# Altium footprint library TSW-102-XX-X-S--Symbol-Altium-44987.PcbLib: 1 footprints
Each footprint in its own frame and in the unit in brackets; x right, y up, seen from the top. Pads: shape width x height; smd on the part's side, far side on the other; paste and mask are expansions set on the pad; w line width, h text height; cw(c..) or ccw(c..) is an arc to the next point about the centre after c.
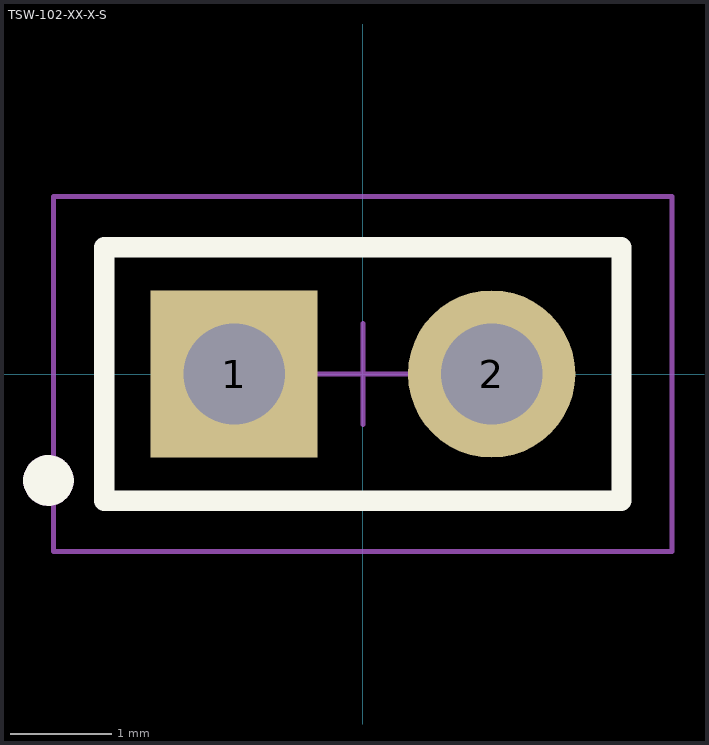
[diagram p0: the footprint, top view; thin cyan lines are the x and y axes]

## TSW-102-XX-X-S [mm] "2.54mm pitch, 2 pin, terminal strip"
height 2.54
pads (2):
  rect 1.65x1.65 hole 1 mask+0: 1(-1.27,0)
  round 1.65 hole 1 mask+0: 2(1.27,0)
Top Overlay:
  circle w0.25: c-3.1,-1.05 r0.125
  lines w0.2: -2.55,-1.25 -2.55,1.25 2.55,1.25 2.55,-1.25 -2.55,-1.25
Mechanical 12:
  lines w0.001: -2.55,-1.25 -2.55,1.25 2.55,1.25 2.55,-1.25 -2.55,-1.25
Mechanical 13:
  circle w0.25: c-3.1,-1.05 r0.125
  lines w0.1: -2.55,-1.25 -2.55,1.25 2.55,1.25 2.55,-1.25 -2.55,-1.25
Mechanical 15:
  lines w0.05: -0.5,0 0.5,0 ; 0,-0.5 0,0.5 ; -3.05,-1.75 -3.05,1.75 3.05,1.75 3.05,-1.75 -3.05,-1.75
3D body "User Library-1x2 TH Pitch 2_54mm.sldprt": height 9.51, standoff -3.19, extent -2.54,-1.27 2.54,1.27